# Altium footprint library Inductor_SMD.PcbLib: 587 footprints (part 37 of 37)
Each footprint in its own frame and in the unit in brackets; x right, y up, seen from the top. Pads: shape width x height; smd on the part's side, far side on the other; paste and mask are expansions set on the pad; w line width, h text height; cw(c..) or ccw(c..) is an arc to the next point about the centre after c.
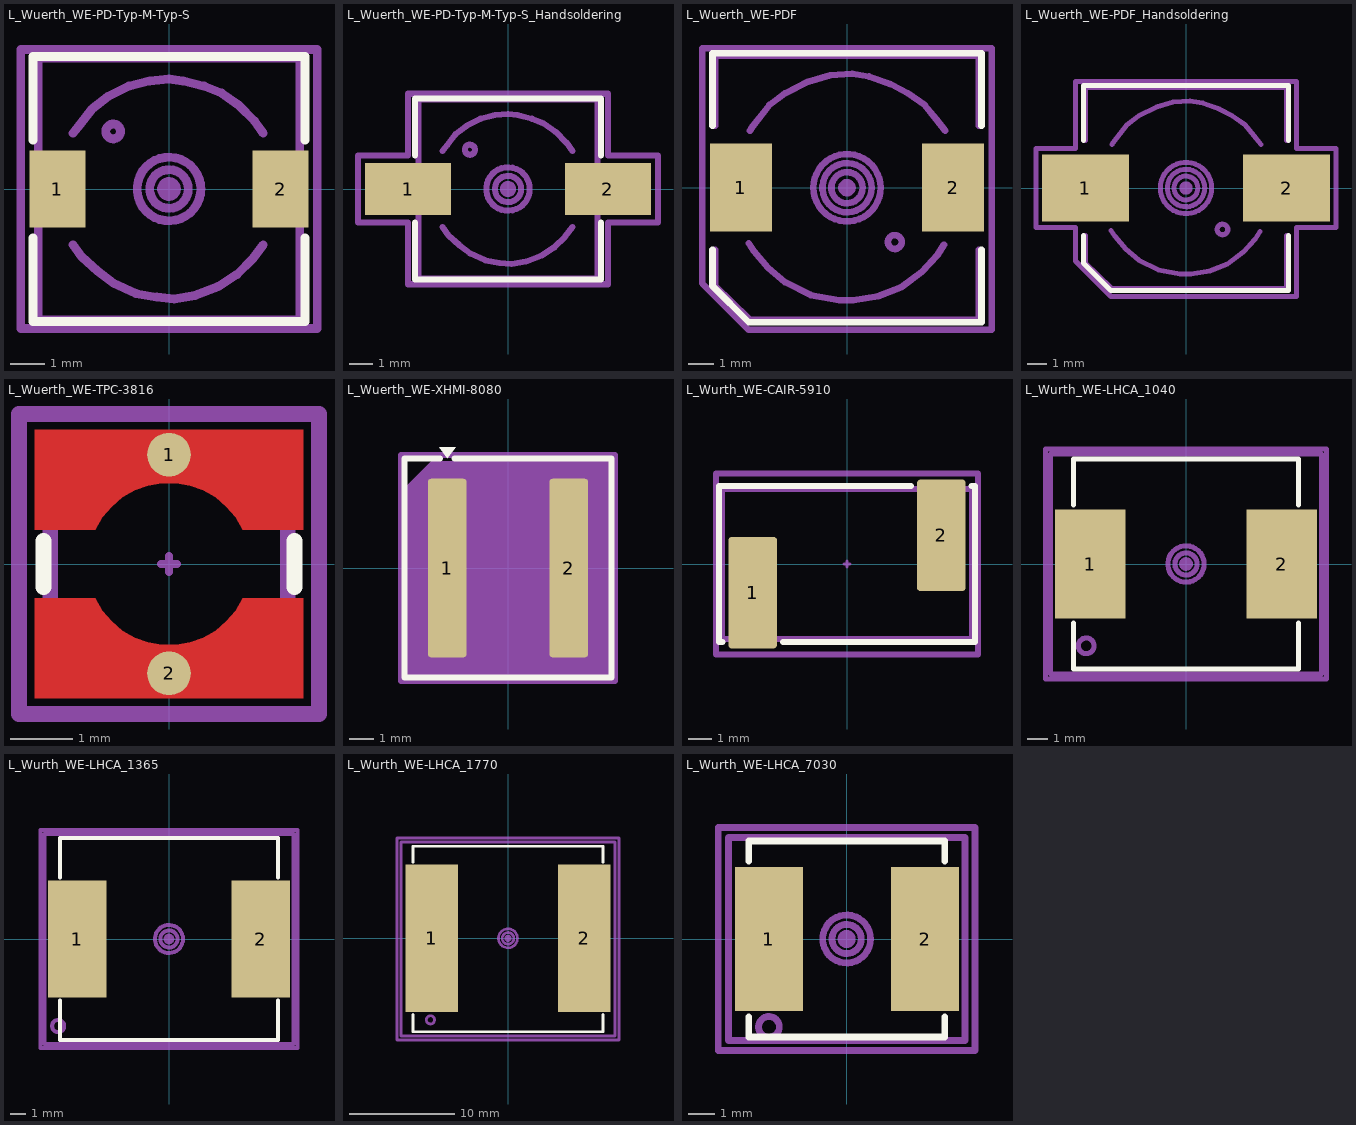
[diagram p36: the footprints below, top view; thin cyan lines are the x and y axes]

## L_Wuerth_WE-PD-Typ-M-Typ-S [mm] "L_Wuerth_WE-PD-Typ-M-Typ-S"
pads (2):
  rect 1.6x2.2 smd: 1(-3.2,0) 2(3.2,0)
F.SilkS:
  lines w0.254: -3.9,-1.4 -3.9,-3.8 3.9,-3.8 3.9,-1.4 ; -3.9,1.4 -3.9,3.8 3.9,3.8 3.9,1.4
Top Component Center:
  lines w0.127: -0.127,0 0.127,0 ; 0,-0.127 0,0.127
Top Assembly:
  circle w0.254: c-1.6,1.65 r0.212
  lines w0.254: -2.75,-1.6 -2.5,-1.95 -2.05,-2.35 -1.6,-2.7 -0.95,-3 -0.35,-3.1 0.15,-3.15 0.75,-3.05 1.4,-2.8 1.95,-2.45 2.4,-2 2.7,-1.6 ; -2.75,1.6 -2.55,1.85 -2.2,2.3 -1.75,2.65 -1.15,2.95 -0.55,3.1 0,3.15 0.4,3.1 1,2.95 1.5,2.75 2,2.4 2.45,1.95 2.7,1.6 ; -3.75,-3.75 -3.75,3.75 3.75,3.75 3.75,-3.75 -3.75,-3.75
  text "'.Designator'" at -4.047,-0.84 h1
Top Courtyard:
  lines w0.254: -4.25,-4 -4.25,4 4.25,4 4.25,-4 -4.25,-4
Top Designator:
  text ".Designator" at -7.618,-0.508 h1.52
Top Glue Points:
  circle w0.254: c0,0 r0.212
  circle w0.254: c0,0 r0.552
  circle w0.254: c0,0 r0.912

## L_Wuerth_WE-PD-Typ-M-Typ-S_Handsoldering [mm] "L_Wuerth_WE-PD-Typ-M-Typ-S_Handsoldering"
pads (2):
  rect 3.6x2.2 smd: 1(-4.2,0) 2(4.2,0)
F.SilkS:
  lines w0.254: -3.9,-1.4 -3.9,-3.8 3.9,-3.8 3.9,-1.4 ; -3.9,1.4 -3.9,3.8 3.9,3.8 3.9,1.4
Top Component Center:
  lines w0.127: -0.127,0 0.127,0 ; 0,-0.127 0,0.127
Top Assembly:
  circle w0.254: c-1.6,1.65 r0.212
  lines w0.254: -2.75,-1.6 -2.5,-1.95 -2.05,-2.35 -1.6,-2.7 -0.95,-3 -0.35,-3.1 0.15,-3.15 0.75,-3.05 1.4,-2.8 1.95,-2.45 2.4,-2 2.7,-1.6 ; -2.75,1.6 -2.55,1.85 -2.2,2.3 -1.75,2.65 -1.15,2.95 -0.55,3.1 0,3.15 0.4,3.1 1,2.95 1.5,2.75 2,2.4 2.45,1.95 2.7,1.6 ; -3.75,-3.75 3.75,-3.75 3.75,3.75 -3.75,3.75 -3.75,-3.75
  text "'.Designator'" at -4.047,-0.84 h1
Top Courtyard:
  lines w0.254: -6.3,-1.4 -4.2,-1.4 -4.2,-4 4.2,-4 4.2,-1.4 6.3,-1.4 6.3,1.4 4.2,1.4 4.2,4 -4.2,4 -4.2,1.4 -6.3,1.4 -6.3,-1.4
Top Designator:
  text ".Designator" at -7.618,-0.508 h1.52
Top Glue Points:
  circle w0.254: c0,0 r0.912
  circle w0.254: c0,0 r0.552
  circle w0.254: c0,0 r0.212

## L_Wuerth_WE-PDF [mm] "L_Wuerth_WE-PDF"
pads (2):
  rect 2.4x3.4 smd: 1(-4.1,0) 2(4.1,0)
F.SilkS:
  lines w0.254: -5.2,-2.4 -5.2,-3.8 -3.8,-5.2 5.2,-5.2 5.2,-2.4 ; -5.2,2.4 -5.2,5.2 5.2,5.2 5.2,2.4
Top Component Center:
  lines w0.127: -0.127,0 0.127,0 ; 0,-0.127 0,0.127
Top Assembly:
  circle w0.254: c1.85,-2.1 r0.269
  lines w0.254: -5.1,-2.4 -5.1,-3.8 -3.8,-5.05 ; -5.1,2.4 -5.1,5.1 5.1,5.1 5.1,2.4 ; -3.8,-5.1 5.1,-5.1 5.1,-2.4 ; -3.8,-2.15 -3.6,-2.45 -3.05,-3.1 -2.4,-3.65 -1.4,-4.15 -0.3,-4.35 0.25,-4.35 1.2,-4.2 2.1,-3.85 2.9,-3.25 3.5,-2.6 3.75,-2.2 ; -3.75,2.2 -3.7,2.3 -3,3.2 -2.4,3.65 -1.5,4.1 -0.65,4.35 0.2,4.4 0.85,4.3 1.7,4 2.35,3.65 3,3.2 3.45,2.65 3.8,2.2
  text "'.Designator'" at -4.047,-0.84 h1
Top Courtyard:
  lines w0.254: -5.6,-3.7 -3.8,-5.5 5.6,-5.5 5.6,5.4 -5.6,5.4 -5.6,-3.7
Top Designator:
  text ".Designator" at -7.618,-0.558 h1.52
Top Glue Points:
  circle w0.254: c0,0 r1.301
  circle w0.254: c0,0 r0.95
  circle w0.254: c0,0 r0.602
  circle w0.254: c0,0 r0.212

## L_Wuerth_WE-PDF_Handsoldering [mm] "L_Wuerth_WE-PDF_Handsoldering"
pads (2):
  rect 4.4x3.4 smd: 1(-5.1,0) 2(5.1,0)
F.SilkS:
  lines w0.254: -5.2,-2.4 -5.2,-3.8 -3.8,-5.2 5.2,-5.2 5.2,-2.4 ; -5.2,2.4 -5.2,5.2 5.2,5.2 5.2,2.4
Top Component Center:
  lines w0.127: -0.127,0 0.127,0 ; 0,-0.127 0,0.127
Top Assembly:
  circle w0.254: c1.85,-2.1 r0.269
  lines w0.254: -5.1,-2.4 -5.1,-3.8 -3.8,-5.05 ; -5.1,2.4 -5.1,5.1 5.1,5.1 5.1,2.4 ; -3.8,-5.1 5.1,-5.1 5.1,-2.4 ; -3.8,-2.15 -3.6,-2.45 -3.05,-3.1 -2.4,-3.65 -1.4,-4.15 -0.3,-4.35 0.25,-4.35 1.2,-4.2 2.1,-3.85 2.9,-3.25 3.5,-2.6 3.75,-2.2 ; -3.75,2.2 -3.7,2.3 -3,3.2 -2.4,3.65 -1.5,4.1 -0.65,4.35 0.2,4.4 0.85,4.3 1.7,4 2.35,3.65 3,3.2 3.45,2.65 3.8,2.2
  text "'.Designator'" at -4.047,-0.84 h1
Top Courtyard:
  lines w0.254: -7.6,-2 -5.6,-2 -5.6,-3.7 -3.8,-5.5 5.6,-5.5 5.6,-2 7.6,-2 7.6,2 5.6,2 5.6,5.4 -5.6,5.4 -5.6,2 -7.6,2 -7.6,-2
Top Designator:
  text ".Designator" at -7.618,-0.558 h1.52
Top Glue Points:
  circle w0.254: c0,0 r1.301
  circle w0.254: c0,0 r0.95
  circle w0.254: c0,0 r0.602
  circle w0.254: c0,0 r0.212

## L_Wuerth_WE-TPC-3816 [mm] "L_Wuerth_WE-TPC-3816"
pads (2):
  round 0.7 smd: 1(0,1.75) 2(0,-1.75)
F.Cu:
  region: 2.15,0.55 1.178,0.55 1.065,0.746 0.919,0.92 0.745,1.065 0.549,1.178 0.336,1.256 0.113,1.295 -0.113,1.295 -0.336,1.256 -0.549,1.178 -0.745,1.065 -0.919,0.92 -1.065,0.746 -1.178,0.55 -2.15,0.55 -2.15,2.15 2.15,2.15
  region: 2.15,-2.15 -2.15,-2.15 -2.15,-0.55 -1.178,-0.55 -1.065,-0.746 -0.919,-0.92 -0.745,-1.065 -0.549,-1.178 -0.336,-1.256 -0.113,-1.295 0.113,-1.295 0.336,-1.256 0.549,-1.178 0.745,-1.065 0.919,-0.92 1.065,-0.746 1.178,-0.55 2.15,-0.55
F.SilkS:
  lines w0.254: -2.01,-0.37 -2.01,0.37 ; 2.01,-0.37 2.01,0.37
F.Paste:
  region: 2.15,0.55 1.178,0.55 1.065,0.746 0.919,0.92 0.745,1.065 0.549,1.178 0.336,1.256 0.113,1.295 -0.113,1.295 -0.336,1.256 -0.549,1.178 -0.745,1.065 -0.919,0.92 -1.065,0.746 -1.178,0.55 -2.15,0.55 -2.15,2.15 2.15,2.15
  region: 2.15,-2.15 -2.15,-2.15 -2.15,-0.55 -1.178,-0.55 -1.065,-0.746 -0.919,-0.92 -0.745,-1.065 -0.549,-1.178 -0.336,-1.256 -0.113,-1.295 0.113,-1.295 0.336,-1.256 0.549,-1.178 0.745,-1.065 0.919,-0.92 1.065,-0.746 1.178,-0.55 2.15,-0.55
F.Mask:
  region: 2.15,0.55 1.178,0.55 1.065,0.746 0.919,0.92 0.745,1.065 0.549,1.178 0.336,1.256 0.113,1.295 -0.113,1.295 -0.336,1.256 -0.549,1.178 -0.745,1.065 -0.919,0.92 -1.065,0.746 -1.178,0.55 -2.15,0.55 -2.15,2.15 2.15,2.15
  region: 2.15,-2.15 -2.15,-2.15 -2.15,-0.55 -1.178,-0.55 -1.065,-0.746 -0.919,-0.92 -0.745,-1.065 -0.549,-1.178 -0.336,-1.256 -0.113,-1.295 0.113,-1.295 0.336,-1.256 0.549,-1.178 0.745,-1.065 0.919,-0.92 1.065,-0.746 1.178,-0.55 2.15,-0.55
Top Component Center:
  lines w0.127: -0.127,0 0.127,0 ; 0,-0.127 0,0.127
Top Assembly:
  lines w0.254: -1.9,-1.9 -1.9,1.9 1.9,1.9 1.9,-1.9 -1.9,-1.9
  text "'.Designator'" at -4.047,-0.84 h1
Top Courtyard:
  lines w0.254: -2.4,-2.4 -2.4,2.4 2.4,2.4 2.4,-2.4 -2.4,-2.4
Top Designator:
  text ".Designator" at -7.768,-0.508 h1.52

## L_Wuerth_WE-XHMI-8080 [mm] "L_Wuerth_WE-XHMI-8080"
pads (2):
  rrect16% 1.6x7.35 smd: 1(-2.5,0) 2(2.5,0)
F.SilkS:
  region: -2.5,4.51 -2.84,4.98 -2.16,4.98
  lines w0.254: -2.796,4.51 -4.26,4.51 -4.26,-4.51 4.26,-4.51 4.26,4.51 -2.204,4.51
Top Assembly:
  region: 4.15,-4.4 -4.15,-4.4 -4.15,3.4 -3.15,4.4 4.15,4.4
  text "'.Designator'" at -4.047,-0.84 h1
Top Courtyard:
  lines w0.254: -4.4,-4.65 4.4,-4.65 4.4,4.65 -4.4,4.65 -4.4,-4.65
Top Designator:
  text ".Designator" at -7.618,-0.406 h1.52

## L_Wurth_WE-CAIR-5910 [mm] "L_Wurth_WE-CAIR-5910"
pads (2):
  rrect12% 2.04x4.7 smd: 1(-3.98,-1.21) 2(3.98,1.21)
F.SilkS:
  lines w0.254: -5.26,-3.3 -5.4,-3.3 -5.4,3.3 2.7,3.3 ; -2.7,-3.3 5.4,-3.3 5.4,3.3 5.26,3.3
Top Component Center:
  lines w0.127: -0.127,0 0.127,0 ; 0,-0.127 0,0.127
Top Assembly:
  lines w0.254: -5.275,-3.175 -5.275,3.175 5.275,3.175 5.275,-3.175 -5.275,-3.175
  text "'.Designator'" at -4.047,-0.84 h1
Top Courtyard:
  lines w0.254: -5.53,-3.81 5.53,-3.81 5.53,3.81 -5.53,3.81 -5.53,-3.81
Top Designator:
  text ".Designator" at -7.618,-0.508 h1.52

## L_Wurth_WE-LHCA_1040 [mm] "SMD Power Inductor, 2-Leads, body 10x10mm"
pads (2):
  rect 3.5x5.4 smd: 1(-4.75,0) 2(4.75,0)
F.SilkS:
  lines w0.254: -5.588,-2.921 -5.588,-5.207 5.588,-5.207 5.588,-2.921 ; -5.588,2.921 -5.588,5.207 5.588,5.207 5.588,2.921
Top Component Center:
  lines w0.127: -0.127,0 0.127,0 ; 0,-0.127 0,0.127
Top Assembly:
  circle w0.254: c-4.953,-4.064 r0.391
  lines w0.254: -6.731,-5.461 -6.731,5.461 6.731,5.461 6.731,-5.461 -6.731,-5.461
Top Courtyard:
  lines w0.254: -6.985,-5.715 -6.985,5.715 6.985,5.715 6.985,-5.715 -6.985,-5.715
Top Designator:
  text ".Designator" at -3.434,-0.345 h1.52
Top Glue Points:
  circle w0.254: c0,0 r0.212
  circle w0.254: c0,0 r0.55
  circle w0.254: c0,0 r0.9
3D body "784373680xxx.stp": height 4.01, standoff 0.05, extent -5.425,-5 5.425,5

## L_Wurth_WE-LHCA_1365 [mm] "SMD Power Inductor, 2-Leads, body 13.45 x 12.60 mm"
pads (2):
  rect 3.75x7.5 smd: 1(-5.875,0) 2(5.875,0)
F.SilkS:
  lines w0.254: -6.985,-3.937 -6.985,-6.477 6.985,-6.477 6.985,-3.937 ; -6.985,3.937 -6.985,6.477 6.985,6.477 6.985,3.937
Top Component Center:
  lines w0.127: -0.127,0 0.127,0 ; 0,-0.127 0,0.127
Top Assembly:
  circle w0.254: c-7.112,-5.588 r0.391
  lines w0.254: -8.001,-6.731 -8.001,6.731 8.001,6.731 8.001,-6.731 -8.001,-6.731
Top Courtyard:
  lines w0.254: -8.255,-6.985 -8.255,6.985 8.255,6.985 8.255,-6.985 -8.255,-6.985
Top Designator:
  text ".Designator" at -3.434,-0.345 h1.52
Top Glue Points:
  circle w0.254: c0,0 r0.212
  circle w0.254: c0,0 r0.55
  circle w0.254: c0,0 r0.9
3D body "784373865xxx.stp": height 6.46, standoff 0, extent -6.725,-6.3 6.725,6.3

## L_Wurth_WE-LHCA_1770 [mm] "SMD Power Inductor, 2-Leads, body 17.45 x 16.95 mm"
pads (2):
  rect 5x14 smd: 1(-7.25,0) 2(7.25,0)
F.SilkS:
  lines w0.254: -9.017,-7.239 -9.017,-8.89 9.017,-8.89 9.017,-7.239 ; -9.017,7.239 -9.017,8.763 9.017,8.763 9.017,7.239
Top Component Center:
  lines w0.127: -0.127,0 0.127,0 ; 0,-0.127 0,0.127
Top Assembly:
  circle w0.254: c-7.366,-7.747 r0.391
  lines w0.254: -10.16,-9.271 10.16,-9.271 10.16,9.144 -10.16,9.144 -10.16,-9.271
Top Courtyard:
  lines w0.254: -10.541,-9.652 10.541,-9.652 10.541,9.525 -10.541,9.525 -10.541,-9.652
Top Designator:
  text ".Designator" at -3.434,-0.345 h1.52
Top Glue Points:
  circle w0.254: c0,0 r0.9
  circle w0.254: c0,0 r0.55
  circle w0.254: c0,0 r0.212
3D body "784373170xxx.stp": height 7.01, standoff 0, extent -8.725,-8.475 8.725,8.475

## L_Wurth_WE-LHCA_7030 [mm] "SMD Power Inductor, 2-Leads, body 6.95 x 6.60 mm"
pads (2):
  rect 2.55x5.4 smd: 1(-2.925,0) 2(2.95,0)
F.SilkS:
  lines w0.254: -3.683,-2.921 -3.683,-3.683 3.683,-3.683 3.683,-2.921 ; -3.683,2.921 -3.683,3.683 3.683,3.683 3.683,2.921
Top Component Center:
  lines w0.127: -0.127,0 0.127,0 ; 0,-0.127 0,0.127
Top Assembly:
  circle w0.254: c-2.921,-3.302 r0.391
  lines w0.254: -4.445,-3.81 4.445,-3.81 4.445,3.81 -4.445,3.81 -4.445,-3.81
Top Courtyard:
  lines w0.254: -4.826,-4.191 4.826,-4.191 4.826,4.191 -4.826,4.191 -4.826,-4.191
Top Designator:
  text ".Designator" at -3.434,-0.345 h1.52
Top Glue Points:
  circle w0.254: c0,0 r0.9
  circle w0.254: c0,0 r0.55
  circle w0.254: c0,0 r0.212
3D body "784373460xxx.stp": height 3.01, standoff 0.05, extent -3.475,-3.3 3.475,3.3